# Altium schematic symbol library Microcontrollers.SchLib: 4 symbols
Pins are listed as number, name and electrical type; pins without a type are passive.

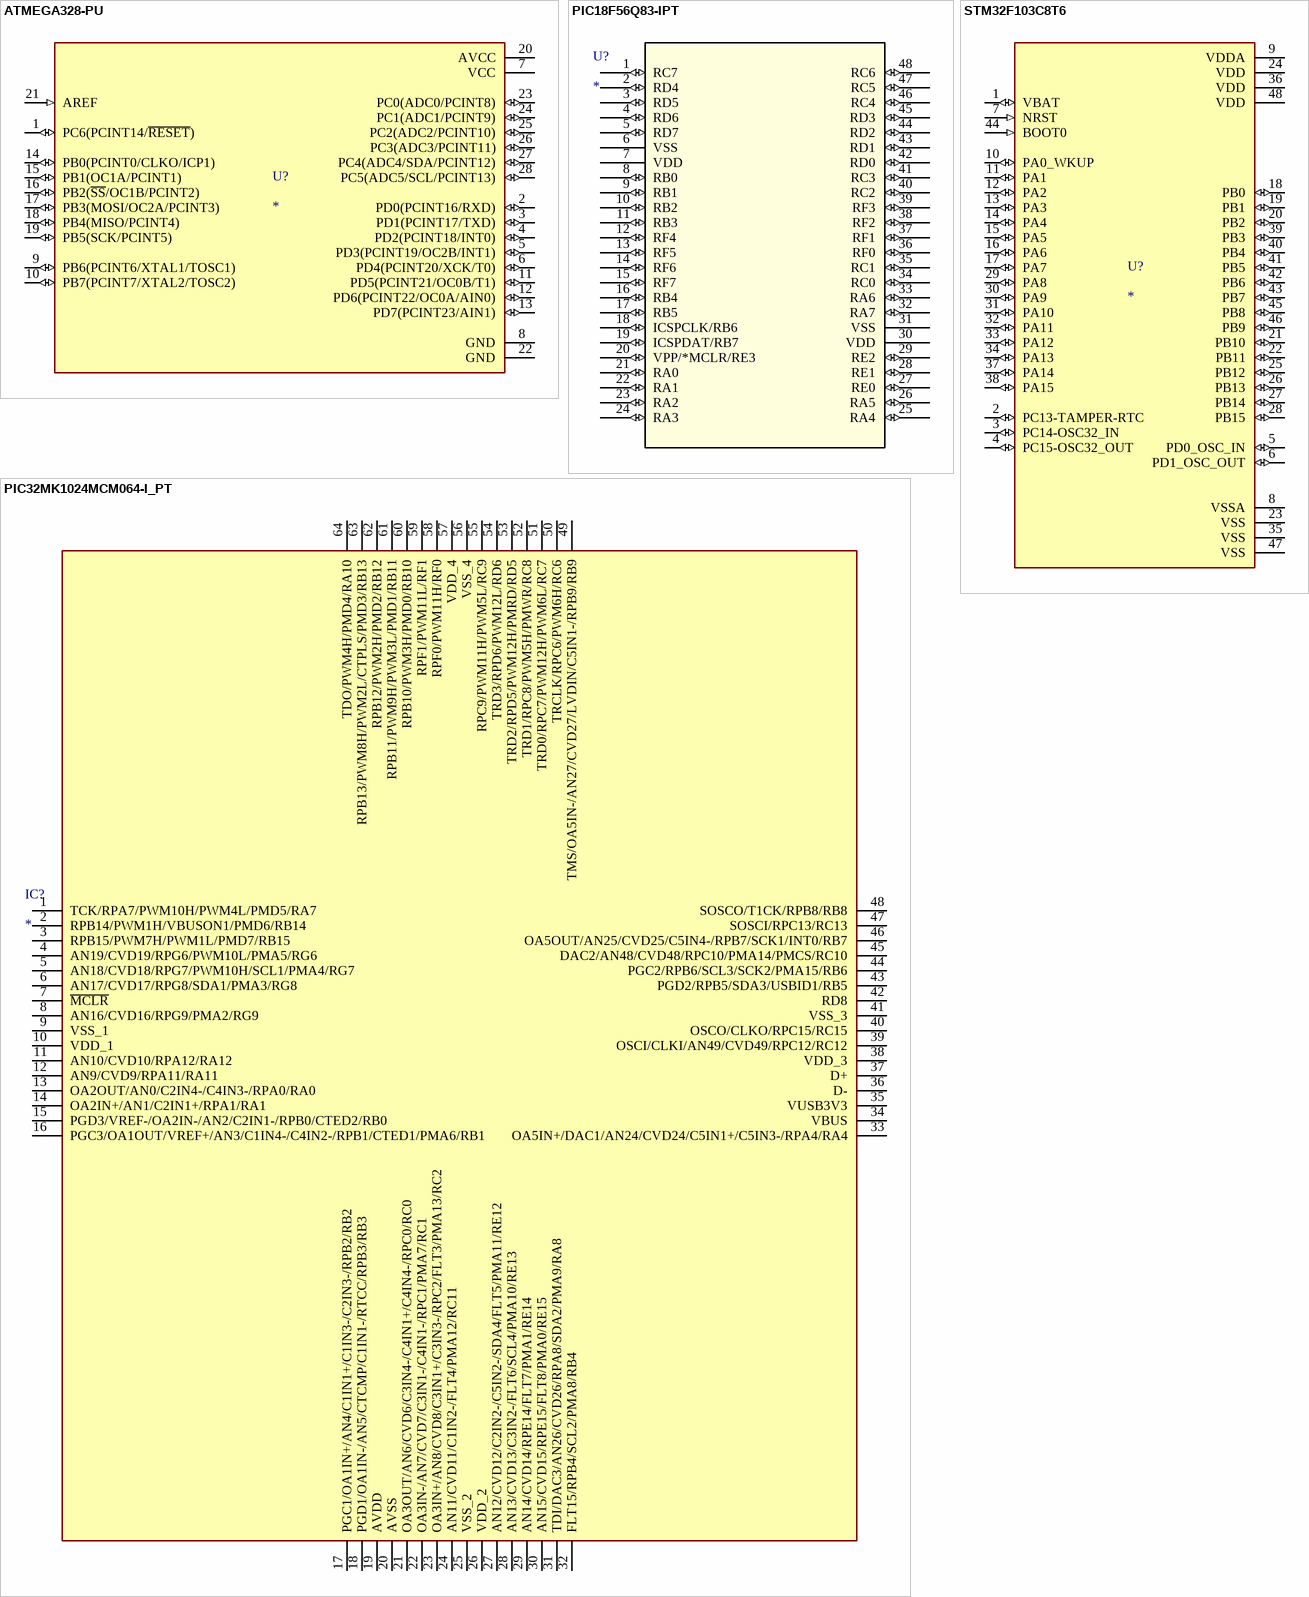
[diagram p0: symbols ATMEGA328-PU to STM32F103C8T6]

## ATMEGA328-PU
designator U?
AVR AVRÂ® ATmega Microcontroller IC 8-Bit 20MHz 32KB (16K x 16) FLASH 28-PDIP; MP: ATMEGA328-PU; MF: Microchip; Availability: In Stock; SnapEDA_Link: https://www.snapeda.com/parts/ATMEGA328-PU/Microchip/view-part/?ref=snap; Value: *; Price: None; Purchase-URL: https://pricing.snapeda.com/search/part/ATMEGA328-PU/?ref=eda; Check_prices: https://www.snapeda.com/parts/ATMEGA328-PU/Microchip/view-part/?ref=eda; Package: DIP-28 Microchip Technology
footprint ATMEGA328P-PU (28_Pin Narrow)
pins: 1 PC6(PCINT14/~{RESET}) (io), 2 PD0(PCINT16/RXD) (io), 3 PD1(PCINT17/TXD) (io), 4 PD2(PCINT18/INT0) (io), 5 PD3(PCINT19/OC2B/INT1) (io), 6 PD4(PCINT20/XCK/T0) (io), 7 VCC (power), 8 GND (power), 9 PB6(PCINT6/XTAL1/TOSC1) (io), 10 PB7(PCINT7/XTAL2/TOSC2) (io), 11 PD5(PCINT21/OC0B/T1) (io), 12 PD6(PCINT22/OC0A/AIN0) (io), 13 PD7(PCINT23/AIN1) (io), 14 PB0(PCINT0/CLKO/ICP1) (io), 15 PB1(OC1A/PCINT1) (io), 16 PB2(~{SS}/OC1B/PCINT2) (io), 17 PB3(MOSI/OC2A/PCINT3) (io), 18 PB4(MISO/PCINT4) (io), 19 PB5(SCK/PCINT5) (io), 20 AVCC (power), 21 AREF (in), 22 GND (power), 23 PC0(ADC0/PCINT8) (io), 24 PC1(ADC1/PCINT9) (io), 25 PC2(ADC2/PCINT10) (io), 26 PC3(ADC3/PCINT11) (io), 27 PC4(ADC4/SDA/PCINT12) (io), 28 PC5(ADC5/SCL/PCINT13) (io)

## PIC18F56Q83-IPT
designator U?
No Description Available; Mfr_Name: Microchip; RefDes: RefDes; Type: Type
footprint PIC18F56Q83-IPT
pins: 1 RC7 (io), 2 RD4 (io), 3 RD5 (io), 4 RD6 (io), 5 RD7 (io), 6 VSS (power), 7 VDD (power), 8 RB0 (io), 9 RB1 (io), 10 RB2 (io), 11 RB3 (io), 12 RF4 (io), 13 RF5 (io), 14 RF6 (io), 15 RF7 (io), 16 RB4 (io), 17 RB5 (io), 18 ICSPCLK/RB6 (io), 19 ICSPDAT/RB7 (io), 20 VPP/*MCLR/RE3 (io), 21 RA0 (io), 22 RA1 (io), 23 RA2 (io), 24 RA3 (io), 25 RA4 (io), 26 RA5 (io), 27 RE0 (io), 28 RE1 (io), 29 RE2 (io), 30 VDD (power), 31 VSS (power), 32 RA7 (io), 33 RA6 (io), 34 RC0 (io), 35 RC1 (io), 36 RF0 (io), 37 RF1 (io), 38 RF2 (io), 39 RF3 (io), 40 RC2 (io), 41 RC3 (io), 42 RD0 (io), 43 RD1 (io), 44 RD2 (io), 45 RD3 (io), 46 RC4 (io), 47 RC5 (io), 48 RC6 (io)

## PIC32MK1024MCM064-I_PT
designator IC?
Integrated Circuit; Manufacturer_Name: Microchip; Manufacturer_Part_Number: PIC32MK1024MCM064-I/PT; Description: 32-bit Microcontrollers - MCU PIC32MK; Datasheet Link: https://ww1.microchip.com/downloads/aemDocuments/documents/MCU32/ProductDocuments/DataSheets/PIC32MK-GPK-MCM-with-CAN-FD-Family-DataSheet-DS60001519E.pdf; Height: 1.2mm; Mouser Part Number: 579-2MK1024MCM064IPT; Mouser Price/Stock: https://www.mouser.co.uk/ProductDetail/Microchip-Technology/PIC32MK1024MCM064-I-PT?qs=W%2FMpXkg%252BdQ4dBI32NJdQMg%3D%3D; Arrow Part Number: PIC32MK1024MCM064-I/PT; Arrow Price/Stock: https://www.arrow.com/en/products/pic32mk1024mcm064-ipt/microchip-technology?region=nac
footprint PIC32MK1024MCM064-I_PT
pins: 1 TCK/RPA7/PWM10H/PWM4L/PMD5/RA7, 2 RPB14/PWM1H/VBUSON1/PMD6/RB14, 3 RPB15/PWM7H/PWM1L/PMD7/RB15, 4 AN19/CVD19/RPG6/PWM10L/PMA5/RG6, 5 AN18/CVD18/RPG7/PWM10H/SCL1/PMA4/RG7, 6 AN17/CVD17/RPG8/SDA1/PMA3/RG8, 7 ~{MCLR}, 8 AN16/CVD16/RPG9/PMA2/RG9, 9 VSS_1, 10 VDD_1, 11 AN10/CVD10/RPA12/RA12, 12 AN9/CVD9/RPA11/RA11, 13 OA2OUT/AN0/C2IN4-/C4IN3-/RPA0/RA0, 14 OA2IN+/AN1/C2IN1+/RPA1/RA1, 15 PGD3/VREF-/OA2IN-/AN2/C2IN1-/RPB0/CTED2/RB0, 16 PGC3/OA1OUT/VREF+/AN3/C1IN4-/C4IN2-/RPB1/CTED1/PMA6/RB1, 17 PGC1/OA1IN+/AN4/C1IN1+/C1IN3-/C2IN3-/RPB2/RB2, 18 PGD1/OA1IN-/AN5/CTCMP/C1IN1-/RTCC/RPB3/RB3, 19 AVDD, 20 AVSS, 21 OA3OUT/AN6/CVD6/C3IN4-/C4IN1+/C4IN4-/RPC0/RC0, 22 OA3IN-/AN7/CVD7/C3IN1-/C4IN1-/RPC1/PMA7/RC1, 23 OA3IN+/AN8/CVD8/C3IN1+/C3IN3-/RPC2/FLT3/PMA13/RC2, 24 AN11/CVD11/C1IN2-/FLT4/PMA12/RC11, 25 VSS_2, 26 VDD_2, 27 AN12/CVD12/C2IN2-/C5IN2-/SDA4/FLT5/PMA11/RE12, 28 AN13/CVD13/C3IN2-/FLT6/SCL4/PMA10/RE13, 29 AN14/CVD14/RPE14/FLT7/PMA1/RE14, 30 AN15/CVD15/RPE15/FLT8/PMA0/RE15, 31 TDI/DAC3/AN26/CVD26/RPA8/SDA2/PMA9/RA8, 32 FLT15/RPB4/SCL2/PMA8/RB4, 33 OA5IN+/DAC1/AN24/CVD24/C5IN1+/C5IN3-/RPA4/RA4, 34 VBUS, 35 VUSB3V3, 36 D-, 37 D+, 38 VDD_3, 39 OSCI/CLKI/AN49/CVD49/RPC12/RC12, 40 OSCO/CLKO/RPC15/RC15, 41 VSS_3, 42 RD8, 43 PGD2/RPB5/SDA3/USBID1/RB5, 44 PGC2/RPB6/SCL3/SCK2/PMA15/RB6, 45 DAC2/AN48/CVD48/RPC10/PMA14/PMCS/RC10, 46 OA5OUT/AN25/CVD25/C5IN4-/RPB7/SCK1/INT0/RB7, 47 SOSCI/RPC13/RC13, 48 SOSCO/T1CK/RPB8/RB8, 49 TMS/OA5IN-/AN27/CVD27/LVDIN/C5IN1-/RPB9/RB9, 50 TRCLK/RPC6/PWM6H/RC6, 51 TRD0/RPC7/PWM12H/PWM6L/RC7, 52 TRD1/RPC8/PWM5H/PMWR/RC8, 53 TRD2/RPD5/PWM12H/PMRD/RD5, 54 TRD3/RPD6/PWM12L/RD6, 55 RPC9/PWM11H/PWM5L/RC9, 56 VSS_4, 57 VDD_4, 58 RPF0/PWM11H/RF0, 59 RPF1/PWM11L/RF1, 60 RPB10/PWM3H/PMD0/RB10, 61 RPB11/PWM9H/PWM3L/PMD1/RB11, 62 RPB12/PWM2H/PMD2/RB12, 63 RPB13/PWM8H/PWM2L/CTPLS/PMD3/RB13, 64 TDO/PWM4H/PMD4/RA10

## STM32F103C8T6
designator U?
ARMÂ® CortexÂ®-M3 STM32F1 Microcontroller IC 32-Bit 72MHz 64KB (64K x 8) FLASH 48-LQFP (7x7); MF: STMicroelectronics; MP: STM32F103C8T6; Package: LQFP-48 STMicroelectronics; Price: None; Check_prices: https://www.snapeda.com/parts/STM32F103C8T6/STMicroelectronics/view-part/?ref=eda; Value: *; SnapEDA_Link: https://www.snapeda.com/parts/STM32F103C8T6/STMicroelectronics/view-part/?ref=snap; Availability: In Stock; Purchase-URL: https://pricing.snapeda.com/search/part/STM32F103C8T6/?ref=eda
footprint STM32F103C8T6
pins: 1 VBAT (io), 2 PC13-TAMPER-RTC (io), 3 PC14-OSC32_IN (io), 4 PC15-OSC32_OUT (io), 5 PD0_OSC_IN (io), 6 PD1_OSC_OUT (io), 7 NRST (in), 8 VSSA (power), 9 VDDA (power), 10 PA0_WKUP (io), 11 PA1 (io), 12 PA2 (io), 13 PA3 (io), 14 PA4 (io), 15 PA5 (io), 16 PA6 (io), 17 PA7 (io), 18 PB0 (io), 19 PB1 (io), 20 PB2 (io), 21 PB10 (io), 22 PB11 (io), 23 VSS (power), 24 VDD (power), 25 PB12 (io), 26 PB13 (io), 27 PB14 (io), 28 PB15 (io), 29 PA8 (io), 30 PA9 (io), 31 PA10 (io), 32 PA11 (io), 33 PA12 (io), 34 PA13 (io), 35 VSS (power), 36 VDD (power), 37 PA14 (io), 38 PA15 (io), 39 PB3 (io), 40 PB4 (io), 41 PB5 (io), 42 PB6 (io), 43 PB7 (io), 44 BOOT0 (in), 45 PB8 (io), 46 PB9 (io), 47 VSS (power), 48 VDD (power)